# Altium schematic symbol library LEDBI.Schlib: 3 symbols
Pins are listed as number, name and electrical type; pins without a type are passive.

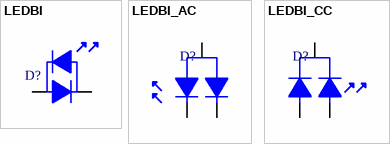
[diagram p0: symbols LEDBI to LEDBI_CC]

## LEDBI
designator D?  (value not drawn)
Led BiColor 3mm - 2 Pines
pins: 1, 2

## LEDBI_AC
designator D?  (value not drawn)
pins: 1 RED, 2 CA, 3 GREEN

## LEDBI_CC
designator D?  (value not drawn)
pins: 1 RED, 2 CA, 3 GREEN